# Altium footprint library BODY_3D_EXTENDED.PcbLib: 1 footprints
Each footprint in its own frame and in the unit in brackets; x right, y up, seen from the top. Pads: shape width x height; smd on the part's side, far side on the other; paste and mask are expansions set on the pad; w line width, h text height; cw(c..) or ccw(c..) is an arc to the next point about the centre after c.

## BODY_3D_EXTENDED [mm] "3D body with custom color and opacity"
3D body: height 3.81, standoff 0.25, extent -2.54,-1.27 2.54,1.27